# EAGLE library part J-6-AVR-ISP (library conn)
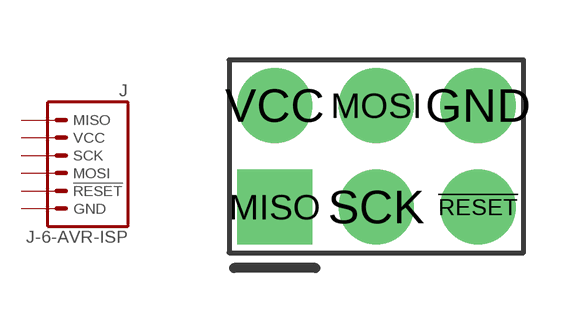
[diagram p4: symbol with the pads of J-6-AVR-ISP; footprint J-6-AVR-ISP]

Designator prefix J

## J-6-AVR-ISP  [J-6-AVR-ISP]
!RESET  !RESET  pas
GND  GND  pas
MISO  MISO  pas
MOSI  MOSI  pas
SCK  SCK  pas
VCC  VCC  pas

## Footprint J-6-AVR-ISP (pad centres in mm)
drill 1.016 pad 1.88: !RESET 2.54,-1.27; GND 2.54,1.27; MOSI 0,1.27; SCK 0,-1.27; VCC -2.54,1.27
drill 1.016 pad 1.88 square: MISO -2.54,-1.27